# Altium schematic symbol library CONN-STD_JACK-FEMALE-2.5.SchLib: 1 symbol
Pins are listed as number, name and electrical type; pins without a type are passive.

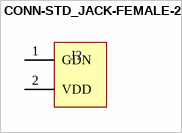
[diagram p0: symbol CONN-STD_JACK-FEMALE-2.5]

## CONN-STD_JACK-FEMALE-2.5
designator J?  (value not drawn)
pins: 1 GDN, 2 VDD